# Altium schematic symbol library WE-MAPI_2506.SchLib: 2 symbols
Pins are listed as number, name and electrical type; pins without a type are passive.

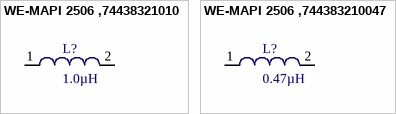
[diagram p0: symbols WE-MAPI 2506 ,74438321010 to WE-MAPI 2506 ,744383210047]

## WE-MAPI 2506 ,74438321010
designator L?, comment 1.0µH
Power Multilayer Inductor WE-MAPI, L=1.0µH; partNo: 74438321010; Manufacturer: Würth Elektronik eiSos GmbH; Inductance: 1.0µH; ComponentLink1Description: Manufacturer; ComponentLink1URL: http://www.we-online.de; Created by: Otto Christin; Created Date: Nov 2013; ComponentLink2Description: Datasheet; ComponentLink2URL: http://katalog.we-online.de/kataloge/eisos/media/pdf/74438321010.pdf
footprint SMD 2506 (Chip Inductor, 2-Leads, Body 2.5x2.0mm, IPC Medium Density)
pins: 1, 2

## WE-MAPI 2506 ,744383210047
designator L?, comment 0.47µH
Power Multilayer Inductor WE-MAPI, L=0.47µH; partNo: 744383210047; Manufacturer: Würth Elektronik eiSos GmbH; Inductance: 0.47µH; ComponentLink1Description: Manufacturer; ComponentLink1URL: http://www.we-online.de; Created by: Otto Christin; Created Date: Nov 2013; ComponentLink2Description: Datasheet; ComponentLink2URL: http://katalog.we-online.de/kataloge/eisos/media/pdf/744383210047.pdf
footprint SMD 2506 (Chip Inductor, 2-Leads, Body 2.5x2.0mm, IPC Medium Density)
pins: 1, 2